# Altium footprint library bldc_lib.PcbLib: 18 footprints (part 1 of 2)
Each footprint in its own frame and in the unit in brackets; x right, y up, seen from the top. Pads: shape width x height; smd on the part's side, far side on the other; paste and mask are expansions set on the pad; w line width, h text height; cw(c..) or ccw(c..) is an arc to the next point about the centre after c.
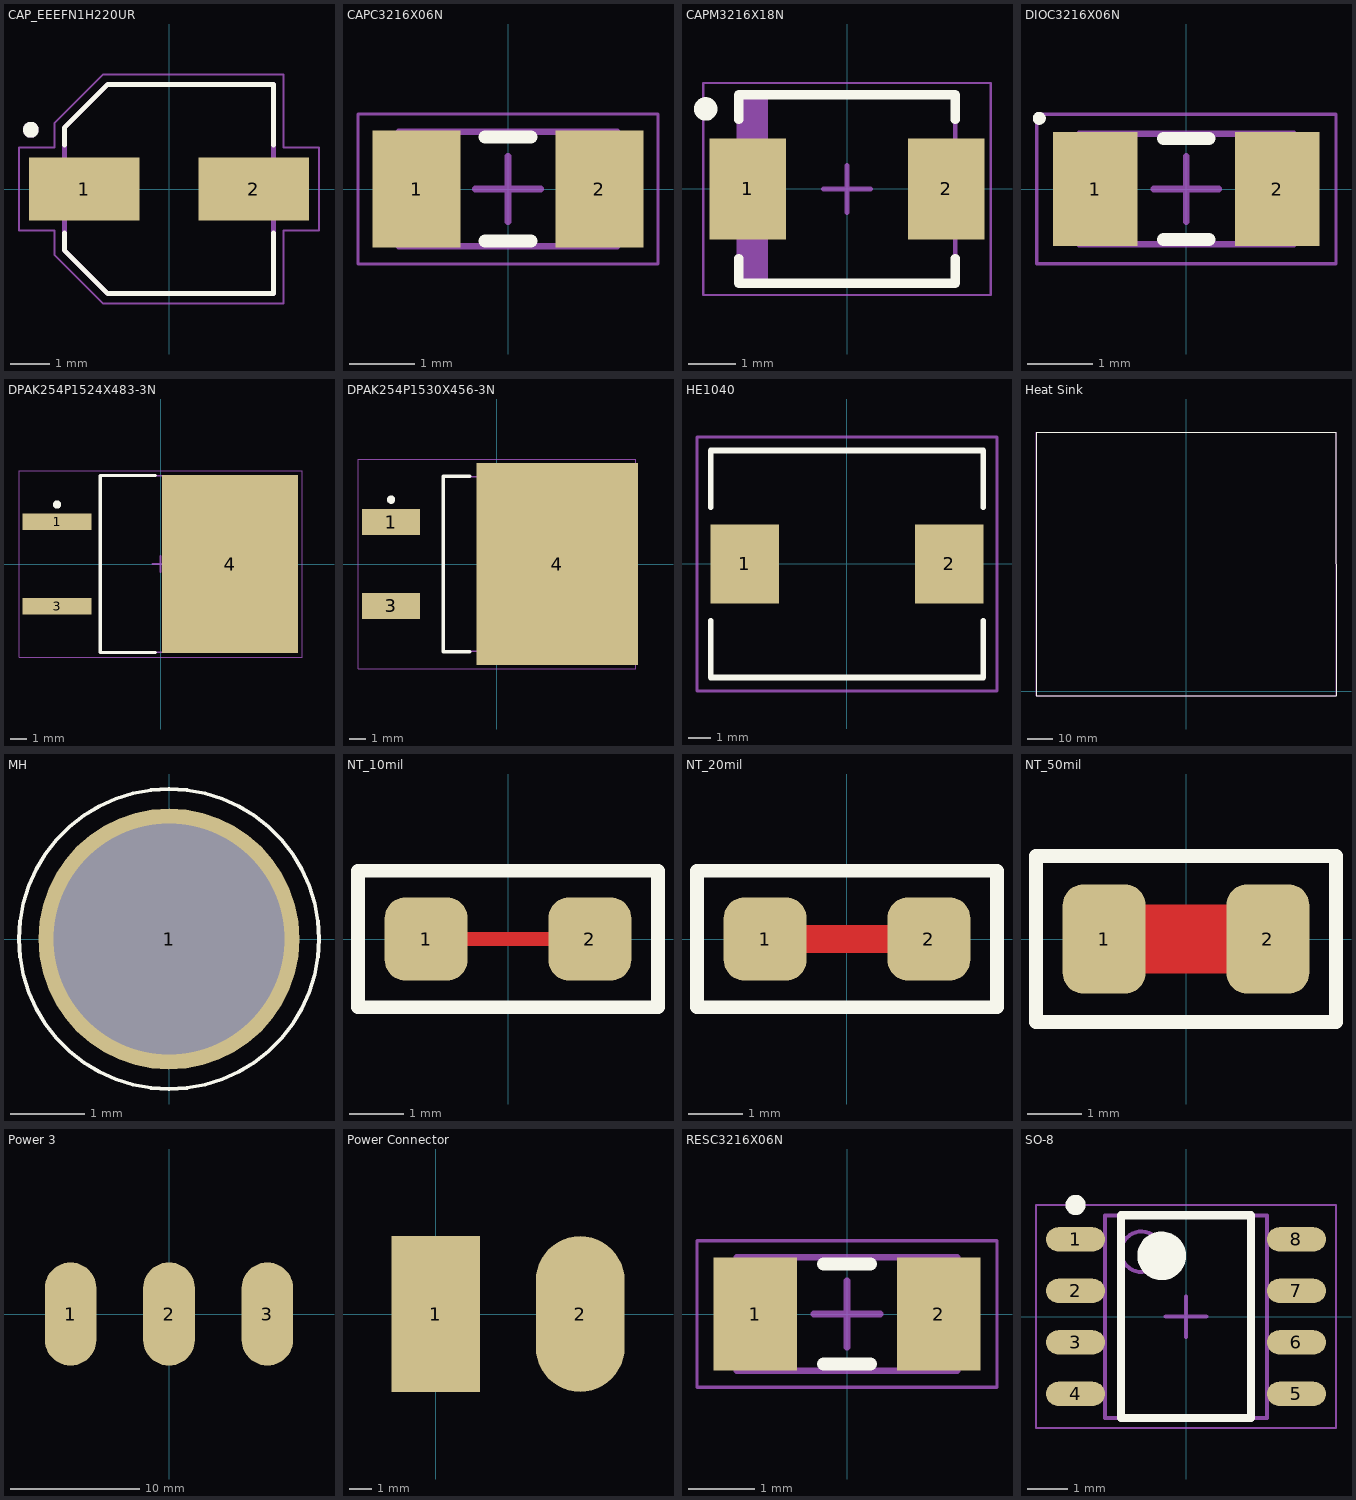
[diagram p0: the footprints below, top view; thin cyan lines are the x and y axes]

## CAP_EEEFN1H220UR [mm]
pads (2):
  rect 2.8x1.6 smd: 1(-2.15,0) 2(2.15,0)
Top Overlay:
  circle w0.2: c-3.5,1.5 r0.1
  lines w0.127: -2.65,-1.12 -2.65,-1.55 -1.55,-2.65 2.65,-2.65 2.65,-1.12 ; -2.65,1.12 -2.65,1.55 -1.55,2.65 2.65,2.65 2.65,1.12
Top 3D Body:
  circle w0.2: c-3.5,1.5 r0.1
  lines w0.127: -2.65,-1.55 -2.65,1.55 -1.55,2.65 2.65,2.65 2.65,-2.65 -1.55,-2.65 -2.65,-1.55
Top Courtyard:
  lines w0.05: -3.8,-1.05 -2.9,-1.05 -2.9,-1.675 -1.675,-2.9 2.9,-2.9 2.9,-1.05 3.8,-1.05 3.8,1.05 2.9,1.05 2.9,2.9 -1.675,2.9 -2.9,1.675 -2.9,1.05 -3.8,1.05 -3.8,-1.05
3D body "step_temp.STEP": height 5.8, standoff 0, extent -3,-2.65 3,2.65

## CAPC3216X06N [mm] "Chip Capacitor, 2-Leads, Body 3,20x1,60mm, IPC Medium Density"
height 0.6
pads (2):
  rect 1.35x1.8 smd: 1(-1.4,0) 2(1.4,0)
Top Overlay:
  lines w0.2: -0.35,-0.8 0.35,-0.8 ; -0.35,0.8 0.35,0.8
Top 3D Body:
  lines w0.1: -1.675,-0.875 -1.675,0.875 1.675,0.875 1.675,-0.875 -1.675,-0.875
Top Courtyard:
  lines w0.05: -2.3,-1.15 -2.3,1.15 2.3,1.15 2.3,-1.15 -2.3,-1.15
  lines w0.1: -0.5,0 0.5,0 ; 0,-0.5 0,0.5
3D body "CAPC3216X06N.step": height 0.6, standoff 0, extent -1.675,-0.875 1.675,0.875

## CAPM3216X18N [mm]
height 2.45
pads (2):
  rect 1.62x2.15 smd: 1(-2.11,0) 2(2.11,0)
Top Overlay:
  circle w0.25: c-3,1.7 r0.125
  lines w0.2: -2.3,-1.475 -2.3,-2 2.3,-2 2.3,-1.475 ; -2.3,1.475 -2.3,2 2.3,2 2.3,1.475
Top 3D Body:
  rectangle: -2.3,-1.95 -1.681,2
  lines w0.1: -2.3,-1.975 2.3,-1.975 2.3,1.975 -2.3,1.975 -2.3,-1.975
Top Courtyard:
  lines w0.05: -3.05,-2.25 3.05,-2.25 3.05,2.25 -3.05,2.25 -3.05,-2.25
  lines w0.1: -0.5,0 0.5,0 ; 0,-0.5 0,0.5
3D body "CAPM3216X18N.step": height 2.45, standoff 0, extent -2.52,-1.975 2.52,1.975

## DIOC3216X06N [mm] "Chip Diode, 2-Leads, Body 3,15x1,60mm, IPC Medium Density"
height 0.6
pads (2):
  rect 1.3x1.75 smd: 1(-1.4,0) 2(1.4,0)
Top Overlay:
  circle w0.1: c-2.262,1.087 r0.05
  lines w0.2: -0.35,-0.775 0.35,-0.775 ; -0.35,0.775 0.35,0.775
Top 3D Body:
  lines w0.1: -1.65,-0.85 1.65,-0.85 1.65,0.85 -1.65,0.85 -1.65,-0.85
Top Courtyard:
  lines w0.05: -2.3,-1.15 2.3,-1.15 2.3,1.15 -2.3,1.15 -2.3,-1.15
  lines w0.1: -0.5,0 0.5,0 ; 0,-0.5 0,0.5
3D body: height 0.6, standoff 0, extent 1.15,-0.85 1.65,0.85
3D body: height 0.6, standoff 0, extent -1.65,-0.85 -1.15,0.85
3D body: height 0.6, standoff 0, extent -1.15,-0.85 1.15,0.85

## DPAK254P1524X483-3N [mm] "D2-PAK, 3-Pads, Body 7,93x8,70mm (max), IPC Medium Density"
height 4.83
pads (3):
  rect 4.15x1 smd: 1(-6.25,2.54) 3(-6.25,-2.54)
  rect 8.2x10.75 smd: 4(4.2,0)
Top Overlay:
  circle w0.25: c-6.25,3.59 r0.125
  lines w0.2: -0.3,-5.35 -3.65,-5.35 -3.65,5.35 -0.3,5.35
Top 3D Body:
  lines w0.1: -3.65,-5.325 -3.65,5.325 6,5.325 6,-5.325 -3.65,-5.325
Top Courtyard:
  lines w0.05: -8.55,-5.625 -8.55,5.625 8.55,5.625 8.55,-5.625 -8.55,-5.625
  lines w0.1: -0.5,0 0.5,0 ; 0,-0.5 0,0.5
3D body "IRF4905STRRPBF--3DModel-STEP-269445.STEP": height 4.84, standoff -0.24, extent -7.62,-5.08 7.62,5.08

## DPAK254P1530X456-3N [mm] "D2-PAK, 3-Pads, Body 7,60x8,64mm (max), IPC Medium Density"
height 4.56
pads (3):
  rect 3.5x1.6 smd: 1(-6.4,2.54) 3(-6.4,-2.54)
  rect 9.75x12.2 smd: 4(3.65,0)
Top Overlay:
  circle w0.25: c-6.4,3.89 r0.125
  lines w0.2: -1.625,-5.3 -3.25,-5.3 -3.25,5.3 -1.625,5.3
Top 3D Body:
  lines w0.1: -3.25,-5.275 5.75,-5.275 5.75,5.275 -3.25,5.275 -3.25,-5.275
Top Courtyard:
  lines w0.05: -8.4,-6.35 8.4,-6.35 8.4,6.35 -8.4,6.35 -8.4,-6.35
  lines w0.1: -0.5,0 0.5,0 ; 0,-0.5 0,0.5
3D body "DPAK254P1530X456-3N.step": height 4.56, standoff 0, extent -7.125,-5.275 8.175,5.275

## HE1040 [mm]
pads (2):
  rect 3x3.5 smd: 1(-4.5,0) 2(4.5,0)
Top Overlay:
  lines w0.254: -6,-2.5 -6,-5 6,-5 6,-2.5 ; -6,2.5 -6,5 6,5 6,2.5
Top Courtyard:
  lines w0.127: -6.604,-5.588 6.604,-5.588 6.604,5.588 -6.604,5.588 -6.604,-5.588

## Heat Sink [mm]
Top Overlay:
  lines w0.127: -59.4,-1.8 -59.4,102.6 59.4,102.6 59.4,-1.8 -59.4,-1.8
Top Assembly (Mech5):
  lines w0.127: -59.4,-1.8 -59.4,102.6 59.4,102.6 59.4,-1.8 -59.4,-1.8
  text ".Designator" at -15.946,62.12 h2
Top Courtyard:
  lines w0.127: -59.4,-1.8 59.4,-1.8 59.4,102.6 -59.4,102.6 -59.4,-1.8
3D body "radiator100.step": height 26.51, standoff 0.01, extent -58,0 58,100

## MH [mm]
pads (1):
  round 3.5 hole 3.1: 1(0,0)
Top Overlay:
  circle w0.05: c0,0 r2.01

## NT_10mil [mil] "10mil Uninsulated Shorting Plug"
pads (2):
  rrect50% 60x60 smd: 1(-59.06,0) 2(59.06,0)
Top Layer:
  rectangle: -39.37,-5 39.37,5
Top Overlay:
  lines w10: -108.27,-49.21 108.27,-49.21 108.27,49.21 -108.27,49.21 -108.27,-49.21

## NT_20mil [mil] "20mil Uninsulated Shorting Plug"
pads (2):
  rrect50% 60x60 smd: 1(-59.05,0) 2(59.06,0)
Top Layer:
  rectangle: -39.37,-10 39.37,10
Top Overlay:
  lines w10: -108.27,-49.21 108.27,-49.21 108.27,49.21 -108.27,49.21 -108.27,-49.21

## NT_50mil [mm]
pads (2):
  rrect50% 1.524x2 smd: 1(-1.5,0) 2(1.5,0)
Top Layer:
  rectangle: -1,-0.635 1,0.635
Top Overlay:
  lines w0.254: -2.75,-1.524 2.75,-1.524 2.75,1.524 -2.75,1.524 -2.75,-1.524

## Power 3 [mm]
pads (3):
  oval 4x8 smd: 1(-7.62,0) 2(0,0) 3(7.62,0)

## Power Connector [mm]
pads (2):
  rect 4x7 smd: 1(0,0)
  oval 4x7 smd: 2(6.5,0)

## RESC3216X06N [mm] "Chip Resistor, 2-Leads, Body 3,15x1,60mm, IPC Medium Density"
height 0.6
pads (2):
  rect 1.25x1.7 smd: 1(-1.375,0) 2(1.375,0)
Top Overlay:
  lines w0.2: -0.35,-0.75 0.35,-0.75 ; -0.35,0.75 0.35,0.75
Top 3D Body:
  lines w0.1: -1.65,-0.85 -1.65,0.85 1.65,0.85 1.65,-0.85 -1.65,-0.85
Top Courtyard:
  lines w0.05: -2.25,-1.1 -2.25,1.1 2.25,1.1 2.25,-1.1 -2.25,-1.1
  lines w0.1: -0.5,0 0.5,0 ; 0,-0.5 0,0.5
3D body "RESC3216X06N.step": height 0.6, standoff 0, extent -1.65,-0.85 1.65,0.85

## SO-8 [mm] "SO-8, 8-Leads, Body 4,90x3,90mm, Pitch 1,27mm, IPC Medium Density"
height 1.75
pads (8):
  oval 1.45x0.6 smd: 1(-2.725,1.905) 2(-2.725,0.635) 3(-2.725,-0.635) 4(-2.725,-1.905) 5(2.725,-1.905) 6(2.725,-0.635) 7(2.725,0.635) 8(2.725,1.905)
Top Overlay:
  circle w0.6: c-0.6,1.5 r0.3
  circle w0.25: c-2.725,2.755 r0.125
  lines w0.2: -1.6,-2.5 1.6,-2.5 1.6,2.5 -1.6,2.5 -1.6,-2.5
Top 3D Body:
  circle w0.1: c-1.1,1.6 r0.5
  lines w0.1: -2,-2.5 2,-2.5 2,2.5 -2,2.5 -2,-2.5
Top Courtyard:
  lines w0.05: -3.7,-2.75 3.7,-2.75 3.7,2.75 -3.7,2.75 -3.7,-2.75
  lines w0.1: -0.5,0 0.5,0 ; 0,-0.5 0,0.5
3D body "SOIC127P600X175-8N.step": height 1.75, standoff 0, extent -3,-2.5 3,2.5